# Altium schematic symbol library LMR16020PDDA.SchLib: 1 symbol
Pins are listed as number, name and electrical type; pins without a type are passive.

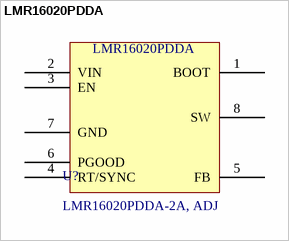
[diagram p0: symbol LMR16020PDDA]

## LMR16020PDDA
designator U?, comment LMR16020PDDA-2A, ADJ
Switching Voltage Regulators SIMPLE SWITCHER 60V, 2A Step-Down Converter with 40uA Iq 8-SO PowerPAD -40 to 125.; Manufacturer: Texas Instruments; Voltage Input: 4.3V - 60V; Manufacturer Part Number: LMR16020PDDA; Voltage Output: ADJ; Current Output: 2A; Supplier 1 URL: https://www.mouser.com/ProductDetail/Texas-Instruments/LMR16020PDDA?qs=n%252BTO0c4TDSZBajvStWOY0A%3D%3D; Supplier 2 URL: https://www.ti.com/lit/ds/symlink/lmr16020.pdf?HQS=dis-mous-null-mousermode-dsf-pf-null-wwe&ts=1689913563511&ref_url=https%253A%252F%252Fwww.mouser.com%252F; Supplier 3 URL: N/A; Value: LMR16020PDDA-2A, ADJ; Mount: SMD/SMT; Operating Temperature Max: + 85 C; Operating Temperature Min: - 40 C; Packaging: Tape and Reel; Supplier 1: Mouser; Supplier 1 Part Number: 595-LMR16020PDDA; Supplier 2: Digi-Key; Supplier 2 Part Number: 296-44512-5-ND; Supplier 3: thegioiic; Supplier 3 Part Number: N/A; ComponentLink1Description: Datasheet; ComponentLink1URL: https://www.ti.com/general/docs/suppproductinfo.tsp?distId=26&gotoUrl=https://www.ti.com/lit/gpn/lmr16020; Package / Case: SOIC-8
footprint LMR16020PDDA (SOIC, 8-Leads, Body 4.90x3.90mm, Pitch 1.27mm)
pins: 1 BOOT (power), 2 VIN (power), 3 EN (power), 4 RT/SYNC (power), 5 FB (power), 6 PGOOD (power), 7 GND (power), 8 SW (power)